# Altium footprint library SOIC-8 + Exposed Pad.PcbLib: 1 footprints
Each footprint in its own frame and in the unit in brackets; x right, y up, seen from the top. Pads: shape width x height; smd on the part's side, far side on the other; paste and mask are expansions set on the pad; w line width, h text height; cw(c..) or ccw(c..) is an arc to the next point about the centre after c.
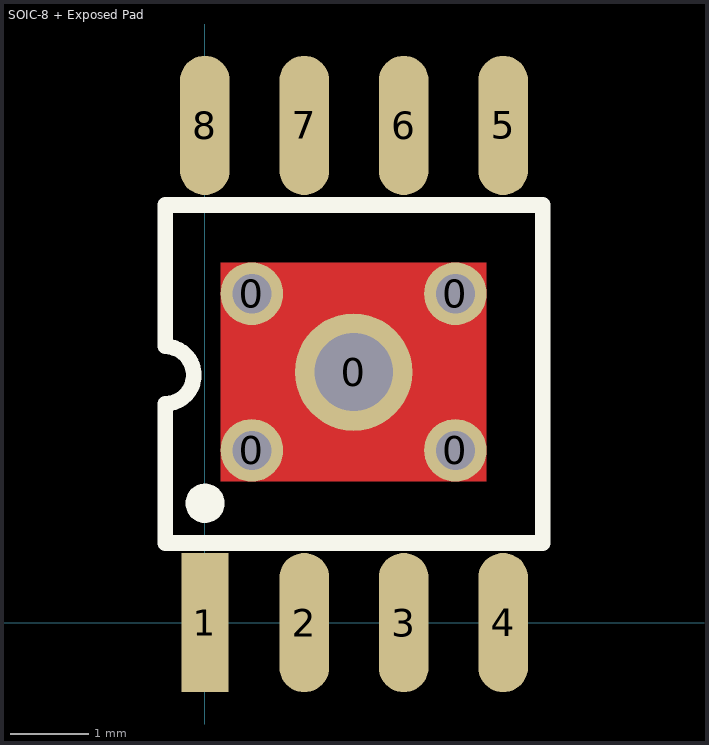
[diagram p0: the footprint, top view; thin cyan lines are the x and y axes]

## SOIC-8 + Exposed Pad [mm]
pads (13):
  round 0.8 hole 0.5: 0(0.6,2.2) 0(0.6,4.2) 0(3.2,2.2) 0(3.2,4.2)
  round 1.5 hole 1: 0(1.9,3.2)
  rect 0.6x1.778 smd: 1(0,0)
  oval 0.635x1.778 smd: 2(1.27,0) 3(2.54,0) 4(3.81,0) 5(3.81,6.35) 6(2.54,6.35) 7(1.27,6.35) 8(0,6.35)
Top Layer:
  rectangle: 0.2,1.8 3.6,4.6
Top Overlay:
  circle w0.25: c0.002,1.524 r0.125
  lines w0.2: -0.508,3.527 cw(c-0.508,3.161) -0.508,2.794 -0.508,1.016 4.318,1.016 4.318,5.334 -0.508,5.334 -0.508,3.556
Top Solder:
  rectangle: 0.1,1.7 3.7,4.7
3D body "SOIC-8.STEP": height 2.28, standoff -0.04, extent -0.79,-1.046 4.59,7.346